# EAGLE library part PEMD10 (library transistors2)
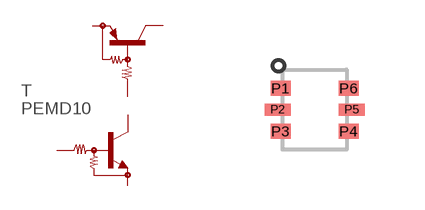
[diagram p0: symbol with the pads of SOT666; footprint SOT666]

Designator prefix T

## PEMD101  [SOT666]
P1  E-NPN  pas
P2  B-NPN  pas
P3  C-PNP  pas
P4  E-PNP  pas
P5  B-PNP  pas
P6  C-NPN  pas

## Footprint SOT666 (pad centres in mm)
smd 0.5 x 0.375: P1 -0.85,0.537; P3 -0.85,-0.537; P4 0.85,-0.537; P6 0.85,0.537
smd 0.65 x 0.3: P2 -0.925,0; P5 0.925,0